# Altium schematic symbol library Power_Management.SchLib: 2 symbols
Pins are listed as number, name and electrical type; pins without a type are passive.

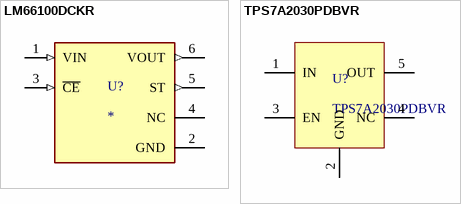
[diagram p0: symbols LM66100DCKR to TPS7A2030PDBVR]

## LM66100DCKR
designator U?
1.5-V to 5.5-V, 1.5-A, 0.5-ÂµA IQ ideal diode with integrated FET; MF: Texas Instruments; MP: LM66100DCKR; SnapEDA_Link: https://www.snapeda.com/parts/LM66100DCKR/Texas+Instruments/view-part/?ref=snap; Package: SOT-SC70-6 Texas Instruments; Value: *; Check_prices: https://www.snapeda.com/parts/LM66100DCKR/Texas+Instruments/view-part/?ref=eda
footprint SOT65P210X110-6N
pins: 1 VIN (in), 2 GND (power), 3 ~{CE} (in), 4 NC, 5 ST (out), 6 VOUT (out)

## TPS7A2030PDBVR
designator U?
IC REG LINEAR 3V 300MA SOT23-5
footprint SOT-23
pins: 1 IN, 2 GND, 3 EN, 4 NC, 5 OUT